# Altium schematic symbol library stereo jack socket.SchLib: 1 symbol
Pins are listed as number, name and electrical type; pins without a type are passive.

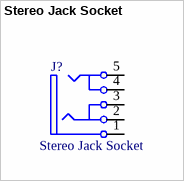
[diagram p0: symbol Stereo Jack Socket]

## Stereo Jack Socket
designator J?
footprint stereo jack socket
pins: 1, 2, 3, 4, 5